# EAGLE library part TB6560HQ (library 1AA_Stofer)
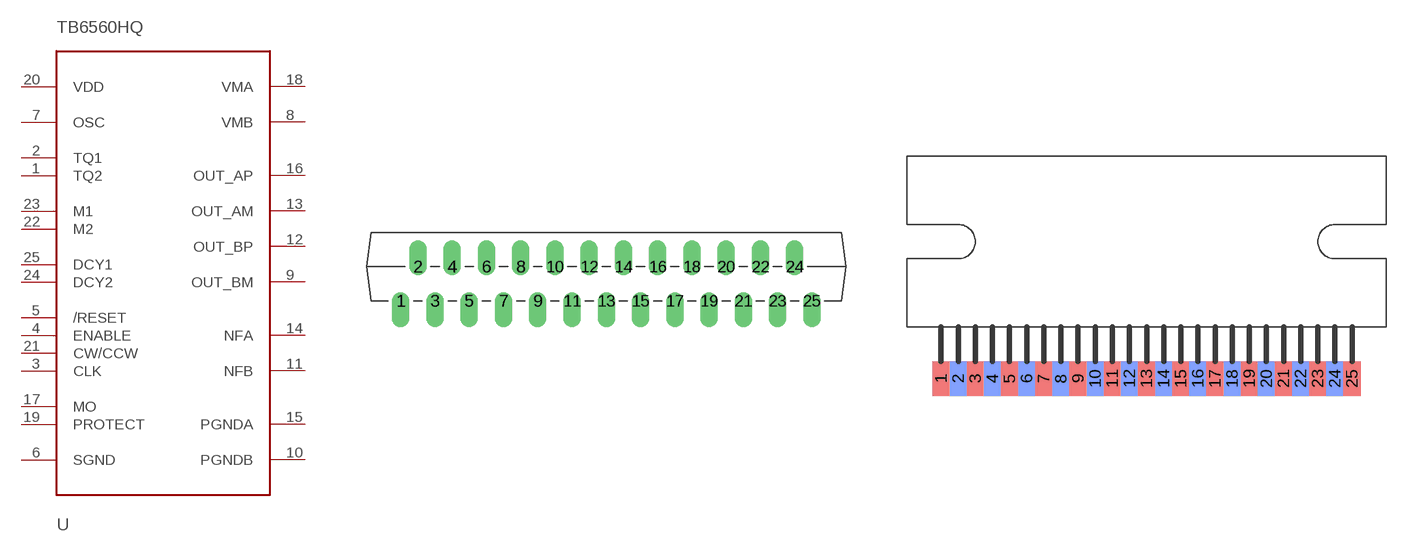
[diagram p26: symbol with the pads of CPP-25; footprints CPP-25, HZIP-25]

Designator prefix -

## TB6560HQVERTICAL  [CPP-25]
1  TQ2  in
2  TQ1  in
3  CLK  in
4  ENABLE  in
5  /RESET  in
6  SGND  pwr
7  OSC  oc
8  VMB  pwr
9  OUT_BM  out
10  PGNDB  pwr
11  NFB  in
12  OUT_BP  out
13  OUT_AM  out
14  NFA  in
15  PGNDA  pwr
16  OUT_AP  out
17  MO  out
18  VMA  pwr
19  PROTECT  out
20  VDD  pwr
21  CW/CCW  in
22  M2  in
23  M1  in
24  DCY2  in
25  DCY1  in

## TB6560HQHORIZ  [HZIP-25]
Pads as for CPP-25

## Footprint CPP-25 (pad centres in mm)
drill 0.8 offset: 1 2.54,0; 2 3.81,2.54; 3 5.08,0; 4 6.35,2.54; 5 7.62,0; 6 8.89,2.54; 7 10.16,0; 8 11.43,2.54; 9 12.7,0; 10 13.97,2.54; 11 15.24,0; 12 16.51,2.54; 13 17.78,0; 14 19.05,2.54; 15 20.32,0; 16 21.59,2.54; 17 22.86,0; 18 24.13,2.54; 19 25.4,0; 20 26.67,2.54; 21 27.94,0; 22 29.21,2.54; 23 30.48,0; 24 31.75,2.54; 25 33.02,0

## Footprint HZIP-25 (pad centres in mm)
smd 1.27 x 2.54: 1 -15.24,-6.35; 3 -12.7,-6.35; 5 -10.16,-6.35; 7 -7.62,-6.35; 9 -5.08,-6.35; 11 -2.54,-6.35; 13 0,-6.35; 15 2.54,-6.35; 17 5.08,-6.35; 19 7.62,-6.35; 21 10.16,-6.35; 23 12.7,-6.35; 25 15.24,-6.35
smd 1.27 x 2.54 bottom: 2 -13.97,-6.35; 4 -11.43,-6.35; 6 -8.89,-6.35; 8 -6.35,-6.35; 10 -3.81,-6.35; 12 -1.27,-6.35; 14 1.27,-6.35; 16 3.81,-6.35; 18 6.35,-6.35; 20 8.89,-6.35; 22 11.43,-6.35; 24 13.97,-6.35